# Altium integrated library ESP8266EX.IntLib: 1 symbol
Pins are listed as number, name and electrical type; pins without a type are passive.

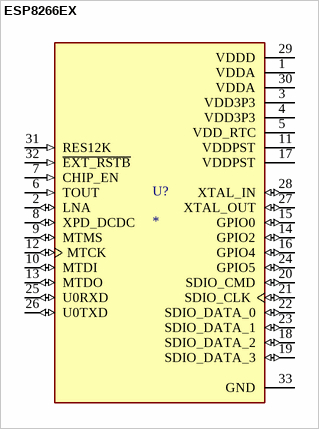
[diagram p0: symbol ESP8266EX]

## ESP8266EX
designator U?
ESP8266EX, Highly Integrated Wi-Fi SoC. 32- VQFN, 5x5mm; Value: *; MP: ESP8266EX; Package: None; Availability: Unavailable; Price: None
footprint QFN50P500X500X80-33N
pins: 1 VDDA (power), 2 LNA (io), 3 VDD3P3 (power), 4 VDD3P3 (power), 5 VDD_RTC (power), 6 TOUT (in), 7 CHIP_EN (in), 8 XPD_DCDC (io), 9 MTMS (io), 10 MTDI (io), 11 VDDPST (power), 12 MTCK (io), 13 MTDO (io), 14 GPIO2 (io), 15 GPIO0 (io), 16 GPIO4 (io), 17 VDDPST (power), 18 SDIO_DATA_2 (io), 19 SDIO_DATA_3 (io), 20 SDIO_CMD (io), 21 SDIO_CLK (io), 22 SDIO_DATA_0 (io), 23 SDIO_DATA_1 (io), 24 GPIO5 (io), 25 U0RXD (io), 26 U0TXD (io), 27 XTAL_OUT (io), 28 XTAL_IN (io), 29 VDDD (power), 30 VDDA (power), 31 RES12K (in), 32 ~{EXT_RSTB} (in), 33 GND (power)